# Altium schematic symbol library TPS54202DDCT.SchLib: 1 symbol
Pins are listed as number, name and electrical type; pins without a type are passive.

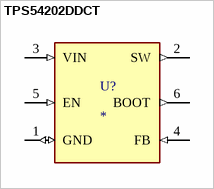
[diagram p0: symbol TPS54202DDCT]

## TPS54202DDCT
designator U?
4.5V to 28V Input, 2A Output, EMI Friendly Synchronous Step-Down Converter; MF: Texas Instruments; MP: TPS54202DDCT; SnapEDA_Link: https://www.snapeda.com/parts/TPS54202DDCT/Texas+Instruments/view-part/?ref=snap; Package: SOT-23-THN-6 Texas Instruments; Value: *; Check_prices: https://www.snapeda.com/parts/TPS54202DDCT/Texas+Instruments/view-part/?ref=eda
footprint SOT95P280X110-6N
pins: 1 GND (io), 2 SW (out), 3 VIN (in), 4 FB (in), 5 EN (in), 6 BOOT (out)